# Altium schematic symbol library Analog Devices MEMS Inertial Sensors.SchLib: 109 symbols (part 6 of 6)
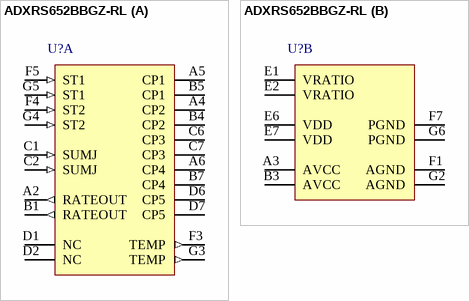
[diagram p10: symbol ADXRS652BBGZ-RL]

## ADXRS652BBGZ-RL
designator U?
+/-250 degrees/s Yaw Rate Gyro with Analog Output, 2.5 KHz BW, Industrial, 32-pin BGA, Reel; Manufacturer: Analog Devices; PartNumber: ADXRS652BBGZ-RL; -3dB Bandwidth: 2.5 KHz; Nonliniarity: 0.1% of FS; Sensitivity: 7 mV/degrees/s; Supply Current: 3.5 mA; Temp Sensor: Yes; Voltage Reference: No; Voltage Supply (V): 4.75 to 5.25; DatasheetVersion: Rev. A; PackageVersion: 042307-A, 04/2007; PackageReference: BG-32-3; PackageDescription: 32-Ball Ceramic Ball Grid Array, 6.85 x 6.85 mm Body, 0.8 mm Pitch; Supplier 1: Digi-Key; Supplier Part Number 1: ADXRS652BBGZ-RLTR-ND; Supplier 2: Digi-Key; Supplier Part Number 2: ADXRS652BBGZ-RLCT-ND; Supplier 3: Digi-Key; Supplier Part Number 3: ADXRS652BBGZ-RLDKR-ND; Supplier 4: Newark; Supplier Part Number 4: 70R1838; Supplier 5: Mouser; Supplier Part Number 5: 584-ADXRS652BBGZ-R; Output Type: Analog; Packing: Reel; Mounting Technology: Surface Mount; ComponentLink1Description: Manufacturer URL; ComponentLink1URL: http://www.analog.com/en/index.html; ComponentLink2Description: Datasheet; ComponentLink2URL: http://www.analog.com/static/imported-files/data_sheets/ADXRS652.pdf; ComponentLink3Description: Package Specification; ComponentLink3URL: http:/www.analog.com/static/imported-files/packages/6438543BG_32_3.pdf; ComponentLink4Description: Product URL; ComponentLink4URL: http://www.analog.com/en/mems-sensors/mems-inertial-sensors/adxrs652/products/product.html
footprint ADI-BG-32-3 (BGA, 32-Balls, Body 6.85x6.85mm, Pitch 0.8mm)
part A pins: A2 RATEOUT (out) "Rate Signal Output.", A4 CP2 "Charge Pump Capacitor (22 nF).", A5 CP1 "Charge Pump Capacitor (22 nF).", A6 CP4 "Charge Pump Capacitor (22 nF).", B1 RATEOUT (out) "Rate Signal Output.", B4 CP2 "Charge Pump Capacitor (22 nF).", B5 CP1 "Charge Pump Capacitor (22 nF).", B7 CP4 "Charge Pump Capacitor (22 nF).", C1 SUMJ (in) "Output Amp Summing Junction.", C2 SUMJ (in) "Output Amp Summing Junction.", C6 CP3 "Charge Pump Capacitor (22 nF).", C7 CP3 "Charge Pump Capacitor (22 nF).", D1 NC "No Connect.", D2 NC "No Connect.", D6 CP5 (power) "HV Filter Capacitor (0.1 uF).", D7 CP5 (power) "HV Filter Capacitor (0.1 uF).", F3 TEMP (out) "Temperature Voltage Output.", F4 ST2 (in) "Self-Test for Sensor 2.", F5 ST1 (in) "Self-Test for Sensor 1.", G3 TEMP (out) "Temperature Voltage Output.", G4 ST2 (in) "Self-Test for Sensor 2.", G5 ST1 (in) "Self-Test for Sensor 1."
part B pins: A3 AVCC (power) "Positive Analog Supply.", B3 AVCC (power) "Positive Analog Supply.", E1 VRATIO (power) "Reference Supply for Ratiometric Output.", E2 VRATIO (power) "Reference Supply for Ratiometric Output.", E6 VDD (power) "Positive Charge Pump Supply.", E7 VDD (power) "Positive Charge Pump Supply.", F1 AGND (power) "Analog Supply Return.", F7 PGND (power) "Charge Pump Supply Return.", G2 AGND (power) "Analog Supply Return.", G6 PGND (power) "Charge Pump Supply Return."